# Altium footprint library D2PACK.PcbLib: 1 footprints
Each footprint in its own frame and in the unit in brackets; x right, y up, seen from the top. Pads: shape width x height; smd on the part's side, far side on the other; paste and mask are expansions set on the pad; w line width, h text height; cw(c..) or ccw(c..) is an arc to the next point about the centre after c.
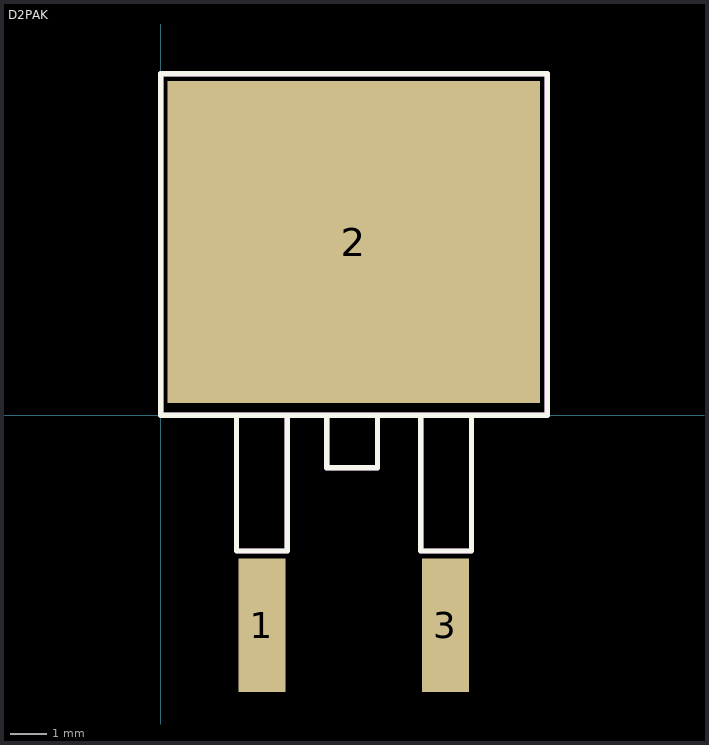
[diagram p0: the footprint, top view; thin cyan lines are the x and y axes]

## D2PAK [mm]
pads (3):
  rect 1.3x3.7 smd: 1(2.8,-5.81) 3(7.88,-5.81)
  rect 10.3x8.9 smd: 2(5.34,4.79)
Top Overlay:
  lines w0.15: 2.1,0 2.1,-3.755 3.5,-3.755 3.5,0 ; 4.6,0 4.6,-1.455 6,-1.455 6,0 ; 7.2,0 7.2,-3.755 8.6,-3.755 8.6,0 ; 0,0 10.7,0 10.7,0.94 10.7,9.445 0,9.445 0,9.245 0,0
Mechanical 7:
  text ".Comment" at 3.149,3.838 h1.52
Top Designator:
  text ".Designator" at 2.722,5.061 h1.52
Top Component Outline:
  lines w0.15: 2.1,0 2.1,-3.755 3.5,-3.755 3.5,0 ; 4.6,0 4.6,-1.455 6,-1.455 6,0 ; 7.2,0 7.2,-3.755 8.6,-3.755 8.6,0 ; 0,0 10.7,0 10.7,0.94 10.7,9.445 0,9.445 0,9.245 0,0
3D body "D2PAK.step": height 4.98, standoff -0.03, extent 0.26,-6.019 10.42,9.245